# EAGLE library part JACK-PHONO-4COND-SW (library LITTLEBITS140826)
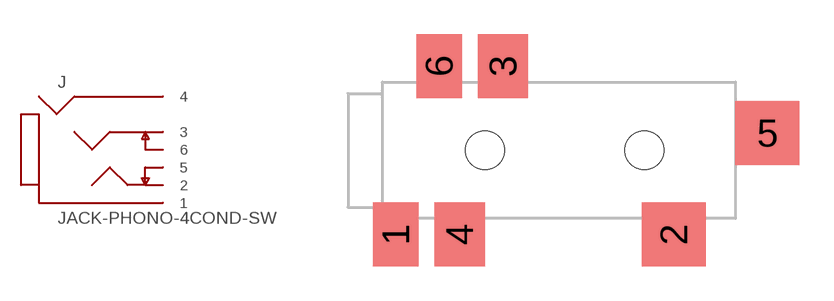
[diagram p36: symbol with the pads of CUI-SJ-4351; footprint CUI-SJ-4351]

Designator prefix J

## JACK-PHONO-4COND-SW  [CUI-SJ-4351]
1  1
2  2
3  3
4  4
5  5
6  6

## Footprint CUI-SJ-4351 (pad centres in mm)
smd 2 x 2.8: 1 0.6,-3.7; 6 2.5,3.7
smd 2.8 x 2.8: 2 12.8,-3.7; 5 16.9,0.75
smd 2.2 x 2.8: 3 5.3,3.7; 4 3.4,-3.7
hole 1.7 at 4.5,0
hole 1.7 at 11.5,0